# EAGLE library part IF_RF_XCVR (library !GPLIB_ACTIVE)
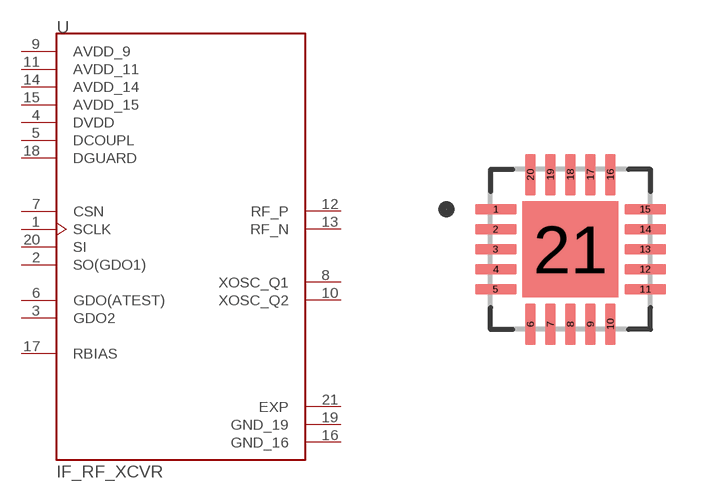
[diagram p18: symbol with the pads of QFN50P400X400X100-21N; footprint QFN50P400X400X100-21N]

Designator prefix U

## IF_RF_XCVR_CC1101RGPR  [QFN50P400X400X100-21N]
1  SCLK  in
2  SO(GDO1)  out
3  GDO2  out
4  DVDD  pwr
5  DCOUPL  pwr
6  GDO(ATEST)
7  CSN  in
8  XOSC_Q1
9  AVDD_9  pwr
10  XOSC_Q2
11  AVDD_11  pwr
12  RF_P
13  RF_N
14  AVDD_14  pwr
15  AVDD_15  pwr
16  GND_16  pwr
17  RBIAS
18  DGUARD  pwr
19  GND_19  pwr
20  SI  in
21  EXP  pwr

## Footprint QFN50P400X400X100-21N (pad centres in mm)
smd 1.04 x 0.26: 1 -1.87,1; 2 -1.87,0.5; 3 -1.87,0; 4 -1.87,-0.5; 5 -1.87,-1; 11 1.87,-1; 12 1.87,-0.5; 13 1.87,0; 14 1.87,0.5; 15 1.87,1
smd 0.26 x 1.04: 6 -1,-1.87; 7 -0.5,-1.87; 8 0,-1.87; 9 0.5,-1.87; 10 1,-1.87; 16 1,1.87; 17 0.5,1.87; 18 0,1.87; 19 -0.5,1.87; 20 -1,1.87
smd 2.4 x 2.4: 21 0,0